# Altium footprint library Test_Library.PcbLib: 14 footprints
Each footprint in its own frame and in the unit in brackets; x right, y up, seen from the top. Pads: shape width x height; smd on the part's side, far side on the other; paste and mask are expansions set on the pad; w line width, h text height; cw(c..) or ccw(c..) is an arc to the next point about the centre after c.
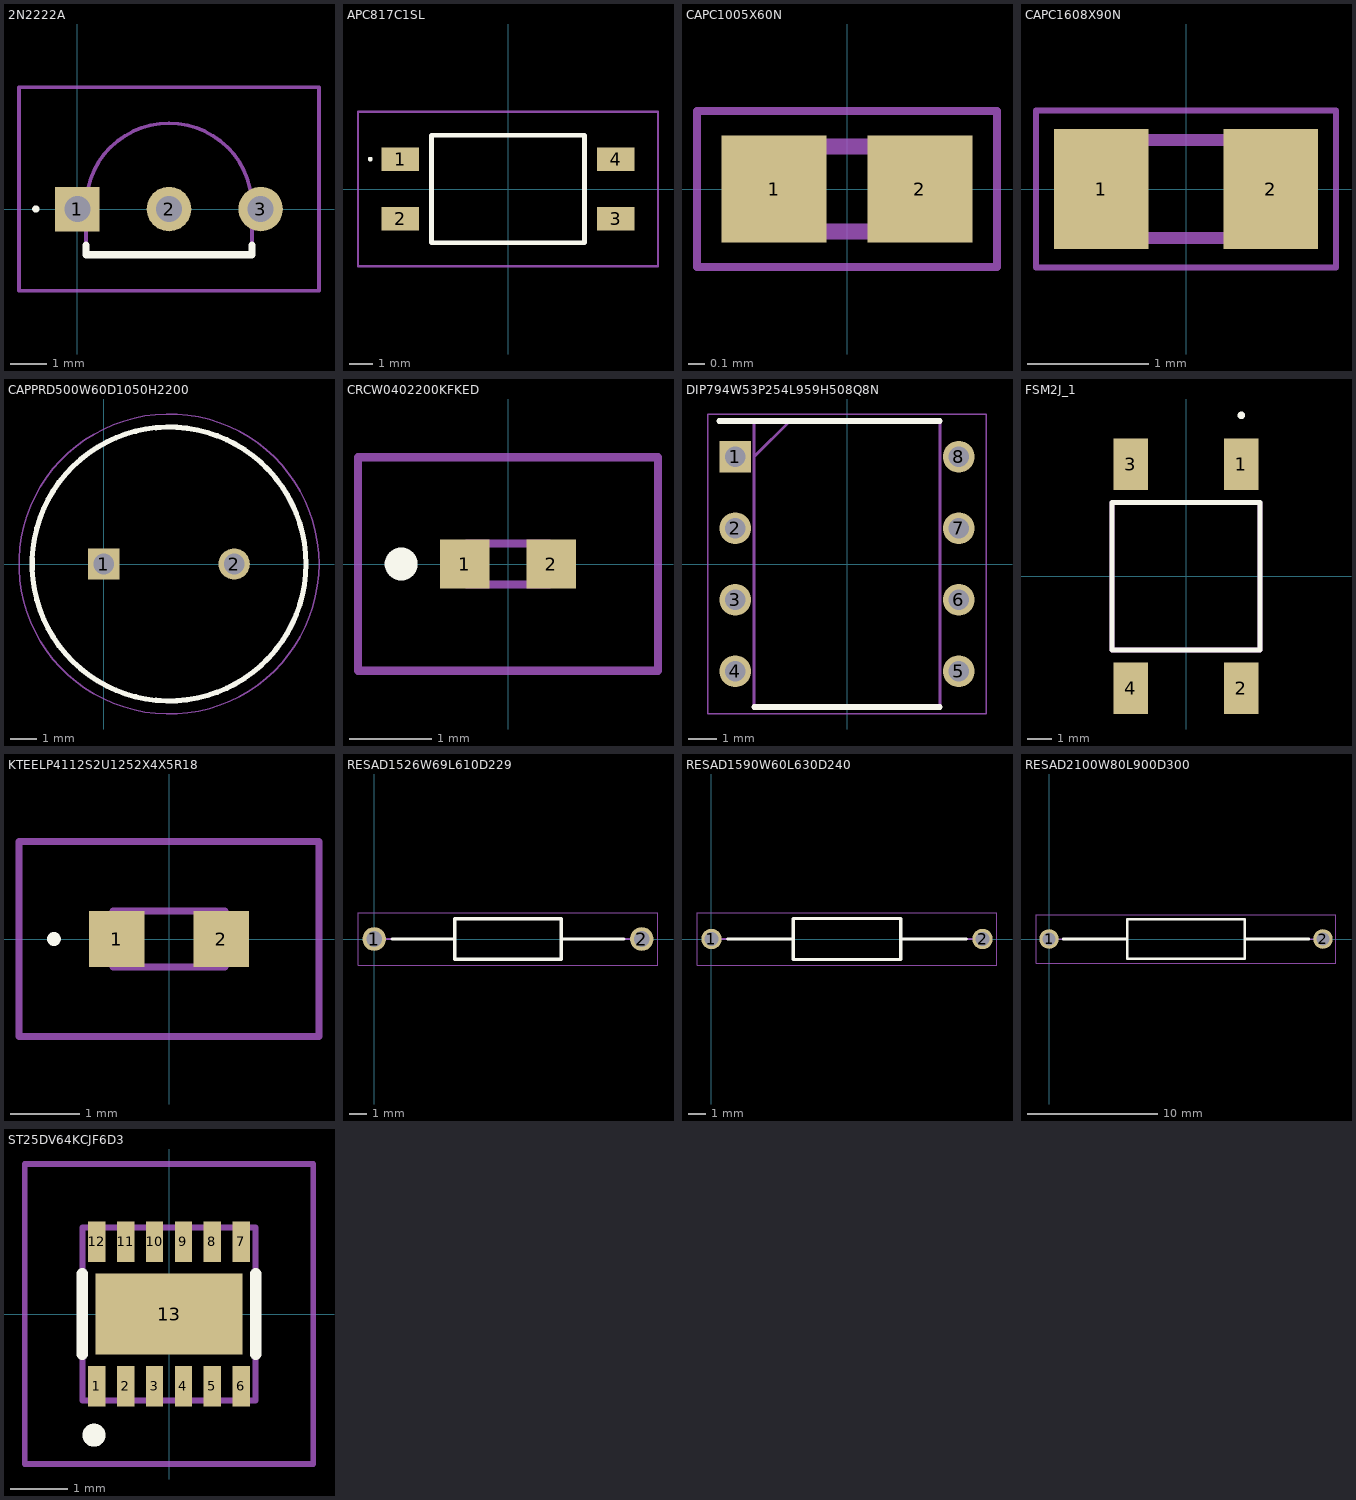
[diagram p0: the footprints below, top view; thin cyan lines are the x and y axes]

## 2N2222A [mm]
pads (3):
  rect 1.234x1.234 hole 0.72: 1(0,0)
  round 1.234 hole 0.72: 2(2.54,0) 3(5.08,0)
Top Overlay:
  lines w0.1: -1.2,0 cw(c-1.15,0) -1.1,0 cw(c-1.15,0) -1.2,0
  lines w0.2: 0.24,-1 0.24,-1.27 4.84,-1.27 4.84,-1
Mechanical 13:
  lines w0.1: 0.24,-1.27 0.24,0.08 cw(c2.54,0.08) 4.84,0.08 4.84,-1.27 0.24,-1.27
Mechanical 15:
  lines w0.1: -1.617,-2.27 -1.617,3.38 6.697,3.38 6.697,-2.27 -1.617,-2.27
3D body "2N2222A.stp": height 7.46, standoff -9.64, extent -0.2,-1.25 5.28,2.35

## APC817C1SL [mm]
pads (4):
  rect 1.6x1 smd: 1(-4.575,1.27) 2(-4.575,-1.27) 3(4.575,-1.27) 4(4.575,1.27)
Top Overlay:
  lines w0.1: -5.9,1.27 ccw(c-5.85,1.27) -5.8,1.27 ccw(c-5.85,1.27) -5.9,1.27
  lines w0.2: -3.25,-2.29 -3.25,2.29 3.25,2.29 3.25,-2.29 -3.25,-2.29
Mechanical 13:
  lines w0.1: -3.25,-2.29 -3.25,2.29 3.25,2.29 3.25,-2.29 -3.25,-2.29
Mechanical 15:
  lines w0.1: -6.375,-3.29 -6.375,3.29 6.375,3.29 6.375,-3.29 -6.375,-3.29
3D body "APC-817C1-SL.stp": height 3.6, standoff 0, extent -5.074,-2.443 5.074,2.443

## CAPC1005X60N [mm]
pads (2):
  rect 0.65x0.66 smd: 1(-0.45,0) 2(0.45,0)
Mechanical 13:
  lines w0.1: -0.512,-0.262 -0.512,0.262 0.512,0.262 0.512,-0.262 -0.512,-0.262
Mechanical 15:
  lines w0.05: -0.925,-0.48 -0.925,0.48 0.925,0.48 0.925,-0.48 -0.925,-0.48
3D body "VJ0402Y103KXAAC.stp": height 0.25, standoff -0.25, extent -0.5,0 0.5,0.6

## CAPC1608X90N [mm]
pads (2):
  rect 0.78x0.99 smd: 1(-0.7,0) 2(0.7,0)
Mechanical 13:
  lines w0.1: -0.8,-0.405 -0.8,0.405 0.8,0.405 0.8,-0.405 -0.8,-0.405
Mechanical 15:
  lines w0.05: -1.24,-0.65 -1.24,0.65 1.24,0.65 1.24,-0.65 -1.24,-0.65
3D body "KAM15AG81H100JT.stp": height 0.9, standoff 0, extent -0.8,-0.405 0.8,0.405

## CAPPRD500W60D1050H2200 [mm]
pads (2):
  rect 1.2x1.2 hole 0.8: 1(0,0)
  round 1.2 hole 0.8: 2(5,0)
Top Overlay:
  circle w0.2: c2.5,0 r5.25
Mechanical 13:
  circle w0.1: c2.5,0 r5.25
Mechanical 15:
  circle w0.05: c2.5,0 r5.75
3D body "MAL214236102E3.stp": height 22, standoff -10, extent -2.75,-5.238 7.75,5.238

## CRCW0402200KFKED [mm]
pads (2):
  rect 0.6x0.6 smd: 1(-0.525,0) 2(0.525,0)
Top Overlay:
  lines w0.2: -1.3,-0.1 ccw(c-1.3,0) -1.3,0.1 ccw(c-1.3,0) -1.3,-0.1
Mechanical 13:
  lines w0.1: -0.5,-0.25 -0.5,0.25 0.5,0.25 0.5,-0.25 -0.5,-0.25
Mechanical 15:
  lines w0.1: -1.825,-1.3 -1.825,1.3 1.825,1.3 1.825,-1.3 -1.825,-1.3
3D body "CRCW04021K65FKEE.stp": height 0.35, standoff 0, extent -0.5,-0.25 0.5,0.25

## DIP794W53P254L959H508Q8N [mm]
pads (8):
  rect 1.13x1.13 hole 0.73: 1(-3.97,3.81)
  round 1.13 hole 0.73: 2(-3.97,1.27) 3(-3.97,-1.27) 4(-3.97,-3.81) 5(3.97,-3.81) 6(3.97,-1.27) 7(3.97,1.27) 8(3.97,3.81)
Top Overlay:
  lines w0.2: -4.535,5.08 3.3,5.08 ; -3.3,-5.08 3.3,-5.08
Mechanical 13:
  lines w0.1: -3.3,3.81 -2.03,5.08 ; -3.3,-5.08 -3.3,5.08 3.3,5.08 3.3,-5.08 -3.3,-5.08
Mechanical 15:
  lines w0.05: -4.945,-5.33 -4.945,5.33 4.945,5.33 4.945,-5.33 -4.945,-5.33
3D body "NE555P.stp": height 4.21, standoff -3.37, extent -4.102,-4.635 4.102,4.635

## FSM2J_1 [mm]
pads (4):
  rect 1.4x2.1 smd: 1(2.25,4.55) 2(2.25,-4.55) 3(-2.25,4.55) 4(-2.25,-4.55)
Top Overlay:
  circle w0.2: c2.25,6.539 r0.052
  lines w0.2: -3,-3 3,-3 3,3 -3,3 -3,-3
Mechanical 13:
  lines w0.2: -3,-3 -3,3 3,3 3,-3 -3,-3
3D body "FSM2JSMAATR.stp": height 4.38, standoff 0, extent -3,-5 3,5

## KTEELP4112S2U1252X4X5R18 [mm]
pads (2):
  rect 0.8x0.8 smd: 1(-0.75,0) 2(0.75,0)
Top Overlay:
  lines w0.1: -1.7,0 ccw(c-1.65,0) -1.6,0 ccw(c-1.65,0) -1.7,0
Mechanical 13:
  lines w0.1: -0.8,-0.4 -0.8,0.4 0.8,0.4 0.8,-0.4 -0.8,-0.4
Mechanical 15:
  lines w0.1: -2.15,-1.4 -2.15,1.4 2.15,1.4 2.15,-1.4 -2.15,-1.4
3D body "KT_EELP41.12-S2U1-25-2X4X-5-R18.stp": height 0.4, standoff 0, extent -0.8,-0.4 0.8,0.4

## PCBComponent_1 [mm]

## RESAD1526W69L610D229 [mm]
pads (2):
  round 1.35 hole 0.9: 1(0,0) 2(15.3,0)
Top Overlay:
  lines w0.2: 1.025,0 4.6,0 ; 10.7,0 14.275,0 ; 4.6,-1.145 4.6,1.145 10.7,1.145 10.7,-1.145 4.6,-1.145
Mechanical 13:
  lines w0.1: 0,0 4.6,0 ; 10.7,0 15.3,0 ; 4.6,-1.145 4.6,1.145 10.7,1.145 10.7,-1.145 4.6,-1.145
Mechanical 15:
  lines w0.05: -0.925,-1.495 -0.925,1.495 16.225,1.495 16.225,-1.495 -0.925,-1.495
3D body "RN55C1002FBSL.stp": height 2.49, standoff -2.49, extent -0.345,-1.236 15.605,1.236

## RESAD1590W60L630D240 [mm]
pads (2):
  round 1.2 hole 0.8: 1(0,0) 2(15.9,0)
Top Overlay:
  lines w0.2: 0.95,0 4.8,0 ; 11.1,0 14.95,0 ; 4.8,-1.2 4.8,1.2 11.1,1.2 11.1,-1.2 4.8,-1.2
Mechanical 13:
  lines w0.1: 0,0 4.8,0 ; 11.1,0 15.9,0 ; 4.8,-1.2 4.8,1.2 11.1,1.2 11.1,-1.2 4.8,-1.2
Mechanical 15:
  lines w0.05: -0.85,-1.55 -0.85,1.55 16.75,1.55 16.75,-1.55 -0.85,-1.55
3D body "FMP100JT-52-1K.stp": height 1.3, standoff -1.3, extent -5.05,-23.7 5.05,2.591

## RESAD2100W80L900D300 [mm]
pads (2):
  round 1.5 hole 1: 1(0,0) 2(21,0)
Top Overlay:
  lines w0.2: 1.1,0 6,0 ; 15,0 19.9,0 ; 6,-1.5 6,1.5 15,1.5 15,-1.5 6,-1.5
Mechanical 13:
  lines w0.1: 0,0 6,0 ; 15,0 21,0 ; 6,-1.5 6,1.5 15,1.5 15,-1.5 6,-1.5
Mechanical 15:
  lines w0.05: -1,-1.85 -1,1.85 22,1.85 22,-1.85 -1,-1.85
3D body "MOS1CT528A103J.stp": height 3.49, standoff -3.5, extent -0.4,-1.747 21.4,1.747

## ST25DV64KCJF6D3 [mm]
pads (13):
  rect 0.3x0.7 smd: 1(-1.25,-1.25) 2(-0.75,-1.25) 3(-0.25,-1.25) 4(0.25,-1.25) 5(0.75,-1.25) 6(1.25,-1.25) 7(1.25,1.25) 8(0.75,1.25) 9(0.25,1.25) 10(-0.25,1.25) 11(-0.75,1.25) 12(-1.25,1.25)
  rect 2.55x1.4 smd: 13(0,0)
Top Overlay:
  lines w0.2: -1.5,-0.7 -1.5,0.7 ; 1.5,-0.7 1.5,0.7 ; -1.4,-2.1 cw(c-1.3,-2.1) -1.2,-2.1 cw(c-1.3,-2.1) -1.4,-2.1
Mechanical 13:
  lines w0.1: -1.5,-1.5 -1.5,1.5 1.5,1.5 1.5,-1.5 -1.5,-1.5
Mechanical 15:
  lines w0.1: -2.5,-2.6 -2.5,2.6 2.5,2.6 2.5,-2.6 -2.5,-2.6
3D body "ST25DV16KC-JF6D3.stp": height 0.55, standoff 0, extent -1.5,-1.5 1.5,1.5